# Altium schematic symbol library ComponentsLib.SchLib: 1 symbol
Pins are listed as number, name and electrical type; pins without a type are passive.

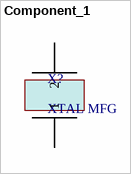
[diagram p0: symbol Component_1]

## Component_1
designator X?, comment XTAL MFG
8MHz_xTal; Manifacturer: ECS International; Frequency: 8MHz
footprint PCBComponent_1
pins: 1, 2